# Altium schematic symbol library Fuse_Sch.SchLib: 1 symbol
Pins are listed as number, name and electrical type; pins without a type are passive.

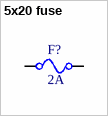
[diagram p0: symbol 5x20 fuse]

## 5x20 fuse
designator F?, comment 2A
5x20 fuse holder clip; Value: 2A
footprint 5x20 fuse holder clip R3-5A
pins: 1, 2